# Altium footprint library IC-RF-Semiconductors-Devices.PcbLib: 1 footprints
Each footprint in its own frame and in the unit in brackets; x right, y up, seen from the top. Pads: shape width x height; smd on the part's side, far side on the other; paste and mask are expansions set on the pad; w line width, h text height; cw(c..) or ccw(c..) is an arc to the next point about the centre after c.
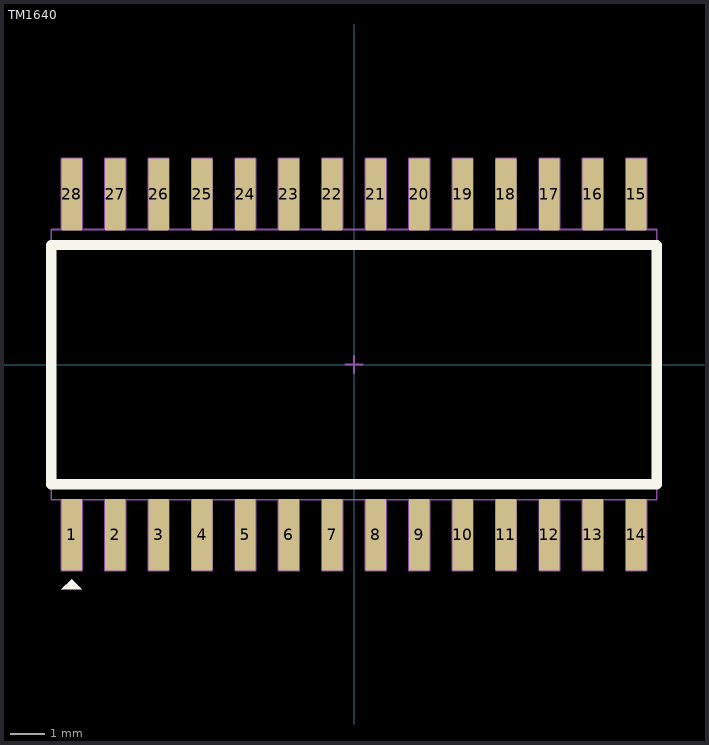
[diagram p0: the footprint, top view; thin cyan lines are the x and y axes]

## TM1640 [mm]
height 2.55
pads (28):
  rrect10% 0.6x2.1 smd mask+0.1: 1(-8.255,-4.975) 2(-6.985,-4.975) 3(-5.715,-4.975) 4(-4.445,-4.975) 5(-3.175,-4.975) 6(-1.905,-4.975) 7(-0.635,-4.975) 8(0.635,-4.975) 9(1.905,-4.975) 10(3.175,-4.975) 11(4.445,-4.975) 12(5.715,-4.975) 13(6.985,-4.975) 14(8.255,-4.975) 15(8.255,4.975) 16(6.985,4.975) 17(5.715,4.975) 18(4.445,4.975) 19(3.175,4.975) 20(1.905,4.975) 21(0.635,4.975) 22(-0.635,4.975) 23(-1.905,4.975) 24(-3.175,4.975) 25(-4.445,4.975) 26(-5.715,4.975) 27(-6.985,4.975) 28(-8.255,4.975)
Top Overlay:
  region: -8.255,-6.275 -8.555,-6.575 -7.955,-6.575
  lines w0.3: -8.85,-3.5 -8.85,3.5 8.85,3.5 8.85,-3.5 -8.85,-3.5
Top HCB:
  lines w0.05: -8.555,3.95 -8.555,6.025 -7.955,6.025 -7.955,3.95 ; -7.285,-3.95 -7.285,-6.025 -6.685,-6.025 -6.685,-3.95 ; -7.285,3.95 -7.285,6.025 -6.685,6.025 -6.685,3.95 ; -6.015,-3.95 -6.015,-6.025 -5.415,-6.025 -5.415,-3.95 ; -6.015,3.95 -6.015,6.025 -5.415,6.025 -5.415,3.95 ; -4.745,-3.95 -4.745,-6.025 -4.145,-6.025 -4.145,-3.95 ; -4.745,3.95 -4.745,6.025 -4.145,6.025 -4.145,3.95 ; -3.475,-3.95 -3.475,-6.025 -2.875,-6.025 -2.875,-3.95 ; -3.475,3.95 -3.475,6.025 -2.875,6.025 -2.875,3.95 ; -2.205,-3.95 -2.205,-6.025 -1.605,-6.025 -1.605,-3.95 ; -2.205,3.95 -2.205,6.025 -1.605,6.025 -1.605,3.95 ; -0.935,-3.95 -0.935,-6.025 -0.335,-6.025 -0.335,-3.95 ; -0.935,3.95 -0.935,6.025 -0.335,6.025 -0.335,3.95 ; -0.25,0 0.25,0 ; 0,-0.25 0,0.25 ; 0.335,-3.95 0.335,-6.025 0.935,-6.025 0.935,-3.95 ; 0.335,3.95 0.335,6.025 0.935,6.025 0.935,3.95 ; 1.605,-3.95 1.605,-6.025 2.205,-6.025 2.205,-3.95 ; 1.605,3.95 1.605,6.025 2.205,6.025 2.205,3.95 ; 2.875,-3.95 2.875,-6.025 3.475,-6.025 3.475,-3.95 ; 2.875,3.95 2.875,6.025 3.475,6.025 3.475,3.95 ; 4.145,-3.95 4.145,-6.025 4.745,-6.025 4.745,-3.95 ; 4.145,3.95 4.145,6.025 4.745,6.025 4.745,3.95 ; 5.415,-3.95 5.415,-6.025 6.015,-6.025 6.015,-3.95 ; 5.415,3.95 5.415,6.025 6.015,6.025 6.015,3.95 ; 6.685,-3.95 6.685,-6.025 7.285,-6.025 7.285,-3.95 ; 6.685,3.95 6.685,6.025 7.285,6.025 7.285,3.95 ; 7.955,-3.95 7.955,-6.025 8.555,-6.025 8.555,-3.95 ; -8.555,-6.025 -8.555,-3.95 -8.555,-6.025 ; -8.555,-6.025 -7.955,-6.025 ; -8.555,-6.025 -7.955,-6.025 ; -7.955,-6.025 -7.955,-3.95 -7.955,-6.025 ; 7.955,6.025 8.555,6.025 ; 7.955,6.025 7.955,3.95 7.955,6.025 ; 7.955,6.025 8.555,6.025 ; 8.555,6.025 8.555,3.95 8.555,6.025 ; -8.85,-3.95 -8.85,3.95 8.85,3.95 8.85,-3.95 -8.85,-3.95
  text "1" at -8.373,-3.197 h1
  text "14" at 7.528,-3.197 h1
  text "15" at 7.524,2.608 h1
  text "28" at -8.421,2.608 h1
3D body "SOP28.stp": height 2.8, standoff 0, extent -8.875,-5.1 8.875,5.1